# Altium footprint library 7W15B-220M.PcbLib: 1 footprints
Each footprint in its own frame and in the unit in brackets; x right, y up, seen from the top. Pads: shape width x height; smd on the part's side, far side on the other; paste and mask are expansions set on the pad; w line width, h text height; cw(c..) or ccw(c..) is an arc to the next point about the centre after c.
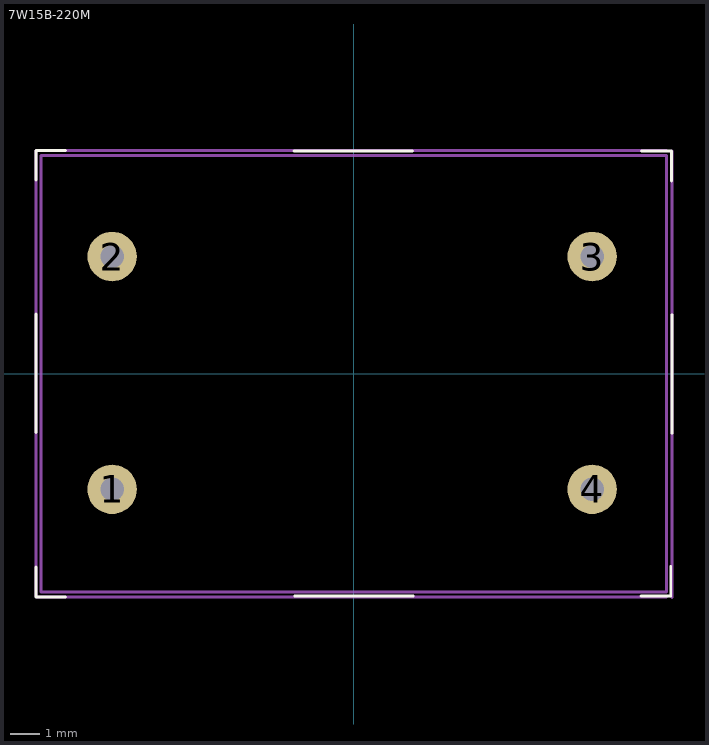
[diagram p0: the footprint, top view; thin cyan lines are the x and y axes]

## 7W15B-220M [mm]
pads (4):
  round 1.7 hole 0.8 mask+0.102: 1(-8.3,-3.975) 2(-8.3,4.025) 3(8.2,4.025) 4(8.2,-3.975)
Top Overlay:
  lines w0.1: -10.925,-6.65 -10.925,-7.675 -9.9,-7.675 ; -10.925,-2.025 -10.925,2.05 ; -10.925,6.65 -10.925,7.675 -9.9,7.675 ; -2.05,7.65 2.025,7.65 ; -2.025,-7.65 2.05,-7.65 ; 9.875,-7.65 10.9,-7.65 10.9,-6.625 ; 9.9,7.65 10.925,7.65 10.925,6.625 ; 10.95,-2.05 10.95,2.025
Mechanical 13:
  lines w0.1: -10.75,-7.5 -10.75,7.5 10.75,7.5 10.75,-7.5 -10.75,-7.5
Mechanical 15:
  lines w0.1: 10.75,-7.675 -10.925,-7.675 -10.925,7.675 10.75,7.675 ; 10.95,-7.7 10.95,7.65
3D body: height 10, standoff 0, extent -10.75,-7.5 10.75,7.5